# Altium footprint library CAPRadial-5mm.PcbLib: 1 footprints
Each footprint in its own frame and in the unit in brackets; x right, y up, seen from the top. Pads: shape width x height; smd on the part's side, far side on the other; paste and mask are expansions set on the pad; w line width, h text height; cw(c..) or ccw(c..) is an arc to the next point about the centre after c.
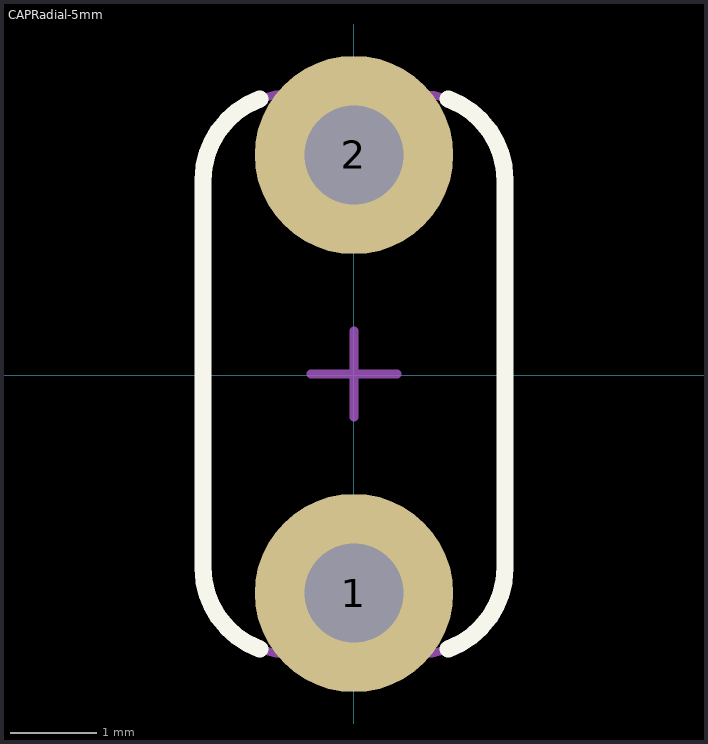
[diagram p0: the footprint, top view; thin cyan lines are the x and y axes]

## CAPRadial-5mm [mm]
pads (2):
  round 2.3 hole 1.15: 1(0.001,-2.527) 2(0.001,2.553)
Top Overlay:
  lines w0.2: -1.091,-3.176 cw(c-0.749,-2.237) -1.749,-2.237 -1.749,2.263 cw(c-0.749,2.263) -1.091,3.203 ; 1.093,-3.176 ccw(c0.751,-2.237) 1.751,-2.237 1.751,2.263 ccw(c0.751,2.263) 1.093,3.203
Mechanical 8:
  lines w0.1: -0.499,-2.527 0.001,-2.527 ; -0.499,0.013 0.001,0.013 ; -0.499,2.553 0.001,2.553 ; 0.001,-3.027 0.001,-2.527 ; 0.001,-2.027 0.001,-2.527 ; 0.001,-0.487 0.001,0.013 ; 0.001,0.513 0.001,0.013 ; 0.001,2.053 0.001,2.553 ; 0.001,3.053 0.001,2.553 ; 0.501,-2.527 0.001,-2.527 ; 0.501,0.013 0.001,0.013 ; 0.501,2.553 0.001,2.553
Mechanical 14:
  lines w0.1: -1.749,-2.237 ccw(c-0.749,-2.237) -0.749,-3.237 0.751,-3.237 ccw(c0.751,-2.237) 1.751,-2.237 1.751,2.263 ccw(c0.751,2.263) 0.751,3.263 -0.749,3.263 ccw(c-0.749,2.263) -1.749,2.263 -1.749,-2.237
3D body "Ceramic Cap, 5mm lead spacing, 4mm width, and 5.5mm tall, v4.step": height 6, standoff -1.3, extent -1.2,-2.775 1.254,2.875